# EAGLE library part TLV61046ADBVR (library TLV61046ADBVR)
Switching Voltage Regulators 28-V Output Voltage Boost Converter with Power Diode and Isolation Switch 6-SOT-23 -40 to 125 Source: Datasheet <http://www.ti.com/lit/ds/symlink/tlv61046a.pdf>
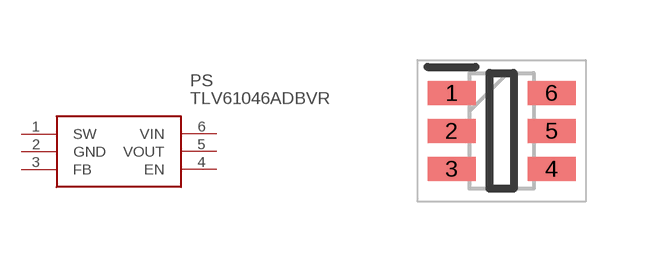
[diagram p0: symbol with the pads of SOT95P280X145-6N; footprint SOT95P280X145-6N]

Designator prefix PS

## TLV61046ADBVR (Description: Switching Voltage Regulators 28-V Output Voltage Boost Converter with Power Diode and Isolation Switch 6-SOT-23 -40 to 125; Height: 1.45mm; Manufacturer_Name: Texas Instruments; Manufacturer_Part_Number: TLV61046ADBVR; Mouser_Part_Number: 595-TLV61046ADBVR; Mouser_Price-Stock: https://www.mouser.co.uk/ProductDetail/Texas-Instruments/TLV61046ADBVR?qs=5aG0NVq1C4xWWIjQ%252BcBpXg%3D%3D)  [SOT95P280X145-6N]
1  SW  pwr
2  GND  pwr
3  FB  in
4  EN  in
5  VOUT  pwr
6  VIN  in

## Footprint SOT95P280X145-6N (pad centres in mm)
SOT-23 (6)
smd 1.2 x 0.6: 1 -1.25,0.95; 2 -1.25,0; 3 -1.25,-0.95; 4 1.25,-0.95; 5 1.25,0; 6 1.25,0.95